# Altium schematic symbol library NX1610SA_32.768000kHz.SchLib: 1 symbol
Pins are listed as number, name and electrical type; pins without a type are passive.

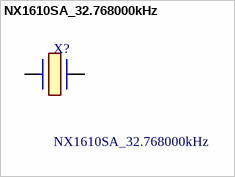
[diagram p0: symbol NX1610SA_32.768000kHz]

## NX1610SA_32.768000kHz
designator X?
NX1610SE Data Sheet (for Mobile Communications and OA / AV)  , -40 to +85C , 0.1 (Max. 0.5) , +25 +/- 5 , STD-MUD-2; Manufacturer_Name: NDK; Manufacturer_Part_Number: NX1610SA 32.768000kHz; Geometry.Height: 0.5mm; Mouser Part Number: 344-NX1610SA32768000; Mouser Price/Stock: https://www.mouser.co.uk/ProductDetail/NDK/NX1610SA-32.768000kHz?qs=9vOqFld9vZXsCVvc%252BcanRw%3D%3D; Datasheet Link: https://www.ndk.com/images/products/catalog/crystal_e.pdf
footprint NX1610SA32768000kHz
pins: 1, 2